# Altium schematic symbol library Jumpers.SchLib: 2 symbols
Pins are listed as number, name and electrical type; pins without a type are passive.

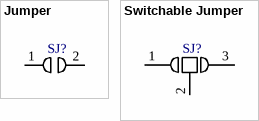
[diagram p0: symbols Jumper to Switchable Jumper]

## Jumper
designator SJ?
Solder Jumper to connect or disconnect a trace.
footprint 6MIL CIRCULAR
footprint 6MIL RECTANGULAR
footprint 35MIL CIRCULAR
footprint 20MIL CIRCULAR
pins: 1, 2

## Switchable Jumper
designator SJ?
Switchable Solder Jumper to choose between two connections.
footprint 6mil Switchable
pins: 1, 2, 3